# Altium schematic symbol library S8201-46R.SchLib: 1 symbol
Pins are listed as number, name and electrical type; pins without a type are passive.

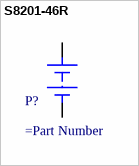
[diagram p0: symbol S8201-46R]

## S8201-46R
designator P?
=Description
pins: 1 V+, 2 V- (power)